# Altium footprint library Electrolytic Caps.PcbLib: 7 footprints
Each footprint in its own frame and in the unit in brackets; x right, y up, seen from the top. Pads: shape width x height; smd on the part's side, far side on the other; paste and mask are expansions set on the pad; w line width, h text height; cw(c..) or ccw(c..) is an arc to the next point about the centre after c.
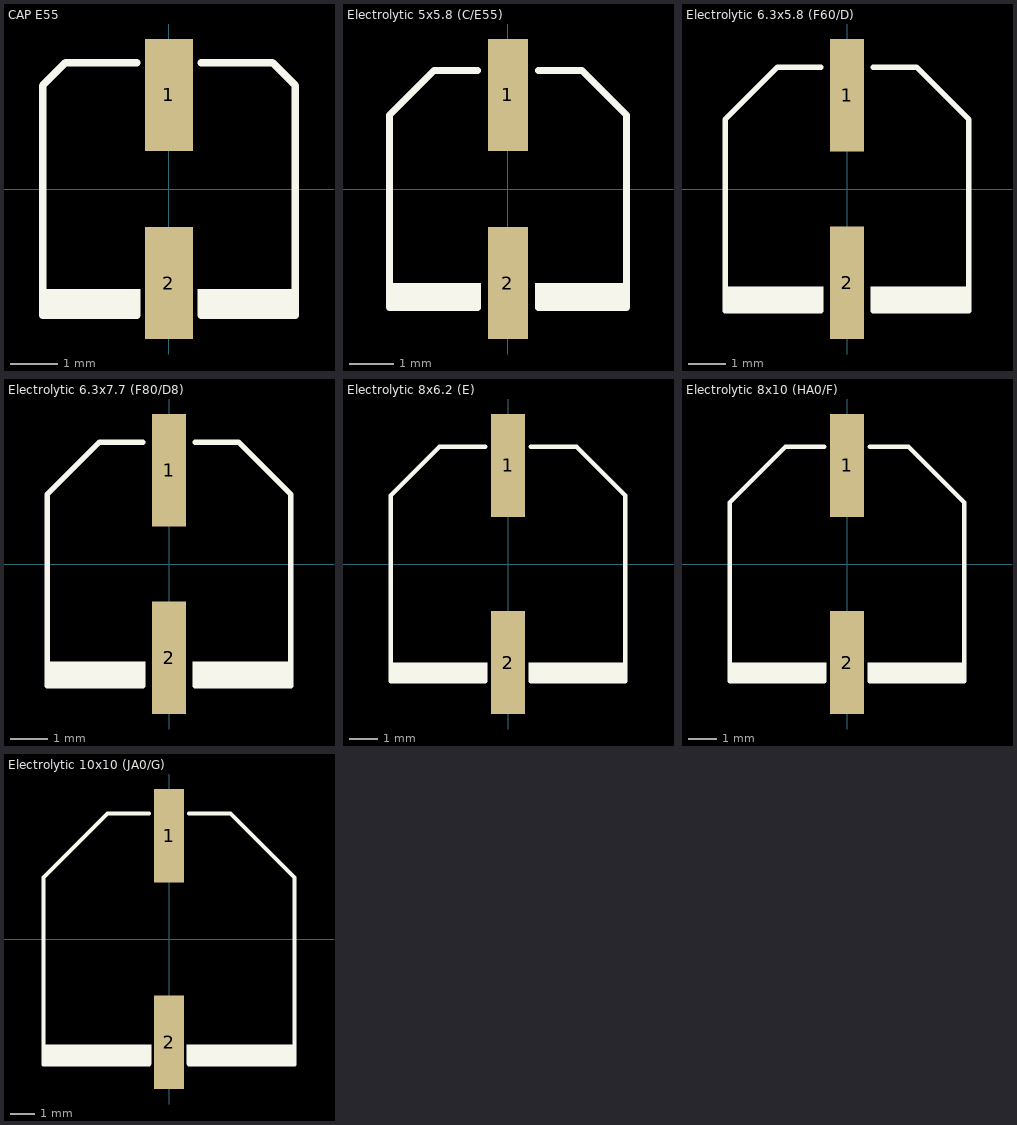
[diagram p0: the footprints below, top view; thin cyan lines are the x and y axes]

## CAP E55 [mm] "Aluminum Electrolytic Capacitor  5.3x5.3 mm Body E55 (United Chemi Con) http://www.chemi-con.com/files/MVA.pdf"
height 5.2
pads (2):
  rect 1x2.35 smd: 1(0,1.975) 2(0,-1.975)
Top Overlay:
  rectangle: -2.65,-2.65 -0.6,-2.1
  rectangle: 0.6,-2.65 2.65,-2.1
  lines w0.152: -0.675,-2.65 -2.65,-2.65 -2.65,2.176 -2.176,2.65 -0.675,2.65 ; 0.675,-2.65 2.65,-2.65 2.65,2.176 2.176,2.65 0.675,2.65
3D body: height 5.52, standoff -0.4, extent -2.659,-3.046 2.675,3.05

## Electrolytic 5x5.8 (C/E55) [mm] "5mm Dia 5.8mm Height Electrolytic Cap (United Chemi-Con E55 / Panasonic C)"
height 6.5
pads (2):
  rect 0.9x2.5 smd: 1(0,2.1) 2(0,-2.1)
Top Overlay:
  rectangle: 0.6,-2.65 2.65,-2.1
  rectangle: -2.65,-2.65 -0.6,-2.1
  lines w0.152: -0.675,-2.65 -2.65,-2.65 -2.65,1.65 -1.65,2.65 -0.675,2.65 ; 0.675,-2.65 2.65,-2.65 2.65,1.65 1.65,2.65 0.675,2.65
3D body: height 5.41, standoff -0.01, extent -2.65,-2.95 2.65,2.95

## Electrolytic 6.3x5.8 (F60/D) [mm] "6.3mm Dia 5.8mm Height Electrolytic Cap (United Chemi-Con F60 / Panasonic D)"
height 7.8
pads (2):
  rect 0.9x3 smd: 1(0,2.5) 2(0,-2.5)
Top Overlay:
  rectangle: 0.625,-3.25 3.25,-2.6
  rectangle: -3.25,-3.25 -0.625,-2.6
  lines w0.152: -0.7,-3.25 -3.25,-3.25 -3.25,1.85 -1.85,3.25 -0.7,3.25 ; 0.7,-3.25 3.25,-3.25 3.25,1.85 1.85,3.25 0.7,3.25
3D body: height 5.41, standoff -0.01, extent -3.3,-3.5 3.3,3.5

## Electrolytic 6.3x7.7 (F80/D8) [mm] "6.3mm Dia 7.7mm Height Electrolytic Cap (United Chemi-Con F80 / Panasonic D8)"
height 7.8
pads (2):
  rect 0.9x3 smd: 1(0,2.5) 2(0,-2.5)
Top Overlay:
  rectangle: -3.25,-3.25 -0.625,-2.6
  rectangle: 0.625,-3.25 3.25,-2.6
  lines w0.152: -0.7,-3.25 -3.25,-3.25 -3.25,1.85 -1.85,3.25 -0.7,3.25 ; 0.7,-3.25 3.25,-3.25 3.25,1.85 1.85,3.25 0.7,3.25
3D body: height 7.71, standoff -0.01, extent -3.3,-3.5 3.3,3.5

## Electrolytic 8x6.2 (E) [mm] "8mm Dia 6.2mm Height Electrolytic Cap (Panasonic E)"
height 6.5
pads (2):
  rect 1.2x3.6 smd: 1(0,3.45) 2(0,-3.45)
Top Overlay:
  rectangle: 0.72,-4.1 4.1,-3.45
  rectangle: -4.1,-4.1 -0.72,-3.45
  lines w0.152: -0.8,-4.1 -4.1,-4.1 -4.1,2.4 -2.4,4.1 -0.8,4.1 ; 0.8,-4.1 4.1,-4.1 4.1,2.4 2.4,4.1 0.8,4.1
3D body: height 6.2, standoff -0.01, extent -4.15,-4.5 4.15,4.5

## Electrolytic 8x10 (HA0/F) [mm] "8mm Dia 10mm Height Electrolytic Cap (United Chemi-Con HA0 / Panasonic F)"
height 10
pads (2):
  rect 1.2x3.6 smd: 1(0,3.45) 2(0,-3.45)
Top Overlay:
  rectangle: 0.72,-4.1 4.1,-3.45
  rectangle: -4.1,-4.1 -0.72,-3.45
  lines w0.152: -0.8,-4.1 -4.1,-4.1 -4.1,2.15 -2.15,4.1 -0.8,4.1 ; 0.8,-4.1 4.1,-4.1 4.1,2.15 2.15,4.1 0.8,4.1
3D body: height 10.5, standoff 0.05, extent -4.15,-4.55 4.15,4.55

## Electrolytic 10x10 (JA0/G) [mm] "10mm Dia 10mm Height Electrolytic Cap (United Chemi-Con JA0 / Panasonic G)"
height 12
pads (2):
  rect 1.2x3.8 smd: 1(0,4.2) 2(0,-4.2)
Top Overlay:
  rectangle: -5.1,-5.1 -0.72,-4.3
  rectangle: 0.72,-5.1 5.1,-4.3
  lines w0.152: -0.8,-5.1 -5.1,-5.1 -5.1,2.5 -2.5,5.1 -0.8,5.1 ; 0.8,-5.1 5.1,-5.1 5.1,2.5 2.5,5.1 0.8,5.1
3D body: height 10.51, standoff 0.05, extent -5.15,-5.65 5.15,5.65